# Altium schematic symbol library TL431ILP.SchLib: 1 symbol
Pins are listed as number, name and electrical type; pins without a type are passive.

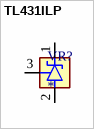
[diagram p0: symbol TL431ILP]

## TL431ILP
designator VR?
MP: TL431ILP; Package: None; Price: None; Value: *; Availability: Unavailable
footprint VREG_TL431ILP
pins: 1 CATHODE, 2 ANODE, 3 REF